# EAGLE library part DRV8704-HBRIDGE_DRIVER (library drv8704-hbridge)
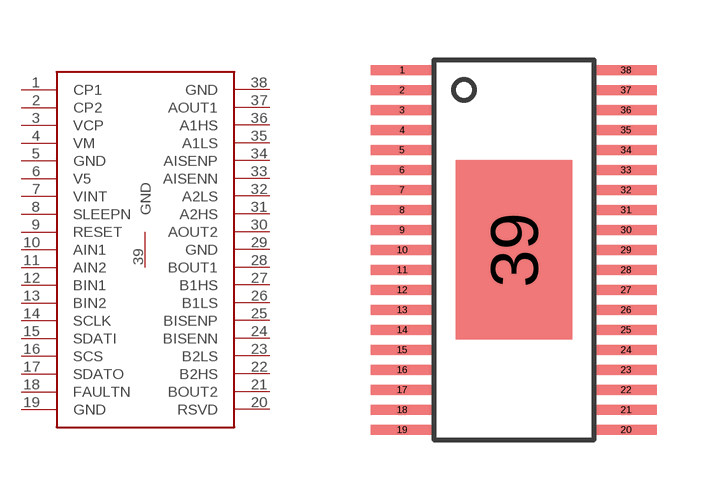
[diagram p0: symbol with the pads of DRV8704-HBRIDGE-DRIVER; footprint DRV8704-HBRIDGE-DRIVER]

Designator prefix -

## DRV8704-HBRIDGE_DRIVER  [DRV8704-HBRIDGE-DRIVER]
1  CP1
2  CP2
3  VCP
4  VM
5  GND
6  V5
7  VINT
8  SLEEPN
9  RESET
10  AIN1
11  AIN2
12  BIN1
13  BIN2
14  SCLK
15  SDATI
16  SCS
17  SDATO
18  FAULTN
19  GND
20  RSVD
21  BOUT2
22  B2HS
23  B2LS
24  BISENN
25  BISENP
26  B1LS
27  B1HS
28  BOUT1
29  GND
30  AOUT2
31  A2HS
32  A2LS
33  AISENN
34  AISENP
35  A1LS
36  A1HS
37  AOUT1
38  GND
39  GND

## Footprint DRV8704-HBRIDGE-DRIVER (pad centres in mm)
smd 1.55 x 0.25: 1 -2.8,4.5; 2 -2.8,4; 3 -2.8,3.5; 4 -2.8,3; 5 -2.8,2.5; 6 -2.8,2; 7 -2.8,1.5; 8 -2.8,1; 9 -2.8,0.5; 10 -2.8,0; 11 -2.8,-0.5; 12 -2.8,-1; 13 -2.8,-1.5; 14 -2.8,-2; 15 -2.8,-2.5; 16 -2.8,-3; 17 -2.8,-3.5; 18 -2.8,-4; 19 -2.8,-4.5; 20 2.8,-4.5; 21 2.8,-4; 22 2.8,-3.5; 23 2.8,-3; 24 2.8,-2.5; 25 2.8,-2; 26 2.8,-1.5; 27 2.8,-1; 28 2.8,-0.5; 29 2.8,0; 30 2.8,0.5; 31 2.8,1; 32 2.8,1.5; 33 2.8,2; 34 2.8,2.5; 35 2.8,3; 36 2.8,3.5; 37 2.8,4; 38 2.8,4.5
smd 2.9 x 4.48: 39 0,0